# EAGLE library part AB-RTCMC (library AB-RTCMC-32.768kHz-EOA9-S3 - RTC)
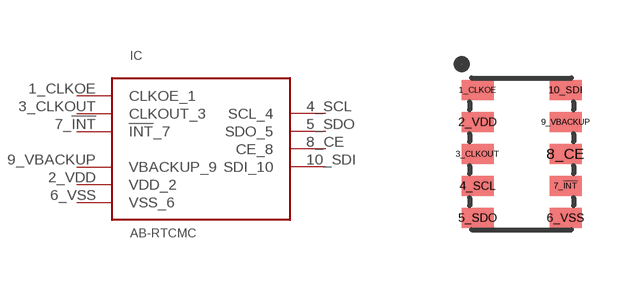
[diagram p0: symbol with the pads of SMD; footprint SMD]

Designator prefix IC

## AB-RTCMC  [SMD]
1_CLKOE  CLKOE_1  in
2_VDD  VDD_2  pwr
3_CLKOUT  CLKOUT_3  out
4_SCL  SCL_4  in
5_SDO  SDO_5  out
6_VSS  VSS_6  pwr
7_!INT!  !INT!_7  out
8_CE  CE_8  in
9_VBACKUP  VBACKUP_9  pwr
10_SDI  SDI_10  in

## Footprint SMD (pad centres in mm)
smd 0.8 x 0.5: 1_CLKOE -1.1,1.6; 2_VDD -1.1,0.8; 3_CLKOUT -1.1,0; 4_SCL -1.1,-0.8; 5_SDO -1.1,-1.6; 6_VSS 1.1,-1.6; 7_!INT! 1.1,-0.8; 8_CE 1.1,0; 9_VBACKUP 1.1,0.8; 10_SDI 1.1,1.6